# Altium integrated library Linear Technology Power Management Switching Regulator LT1074-LT8705.IntLib: 2252 symbols (part 58 of 148)
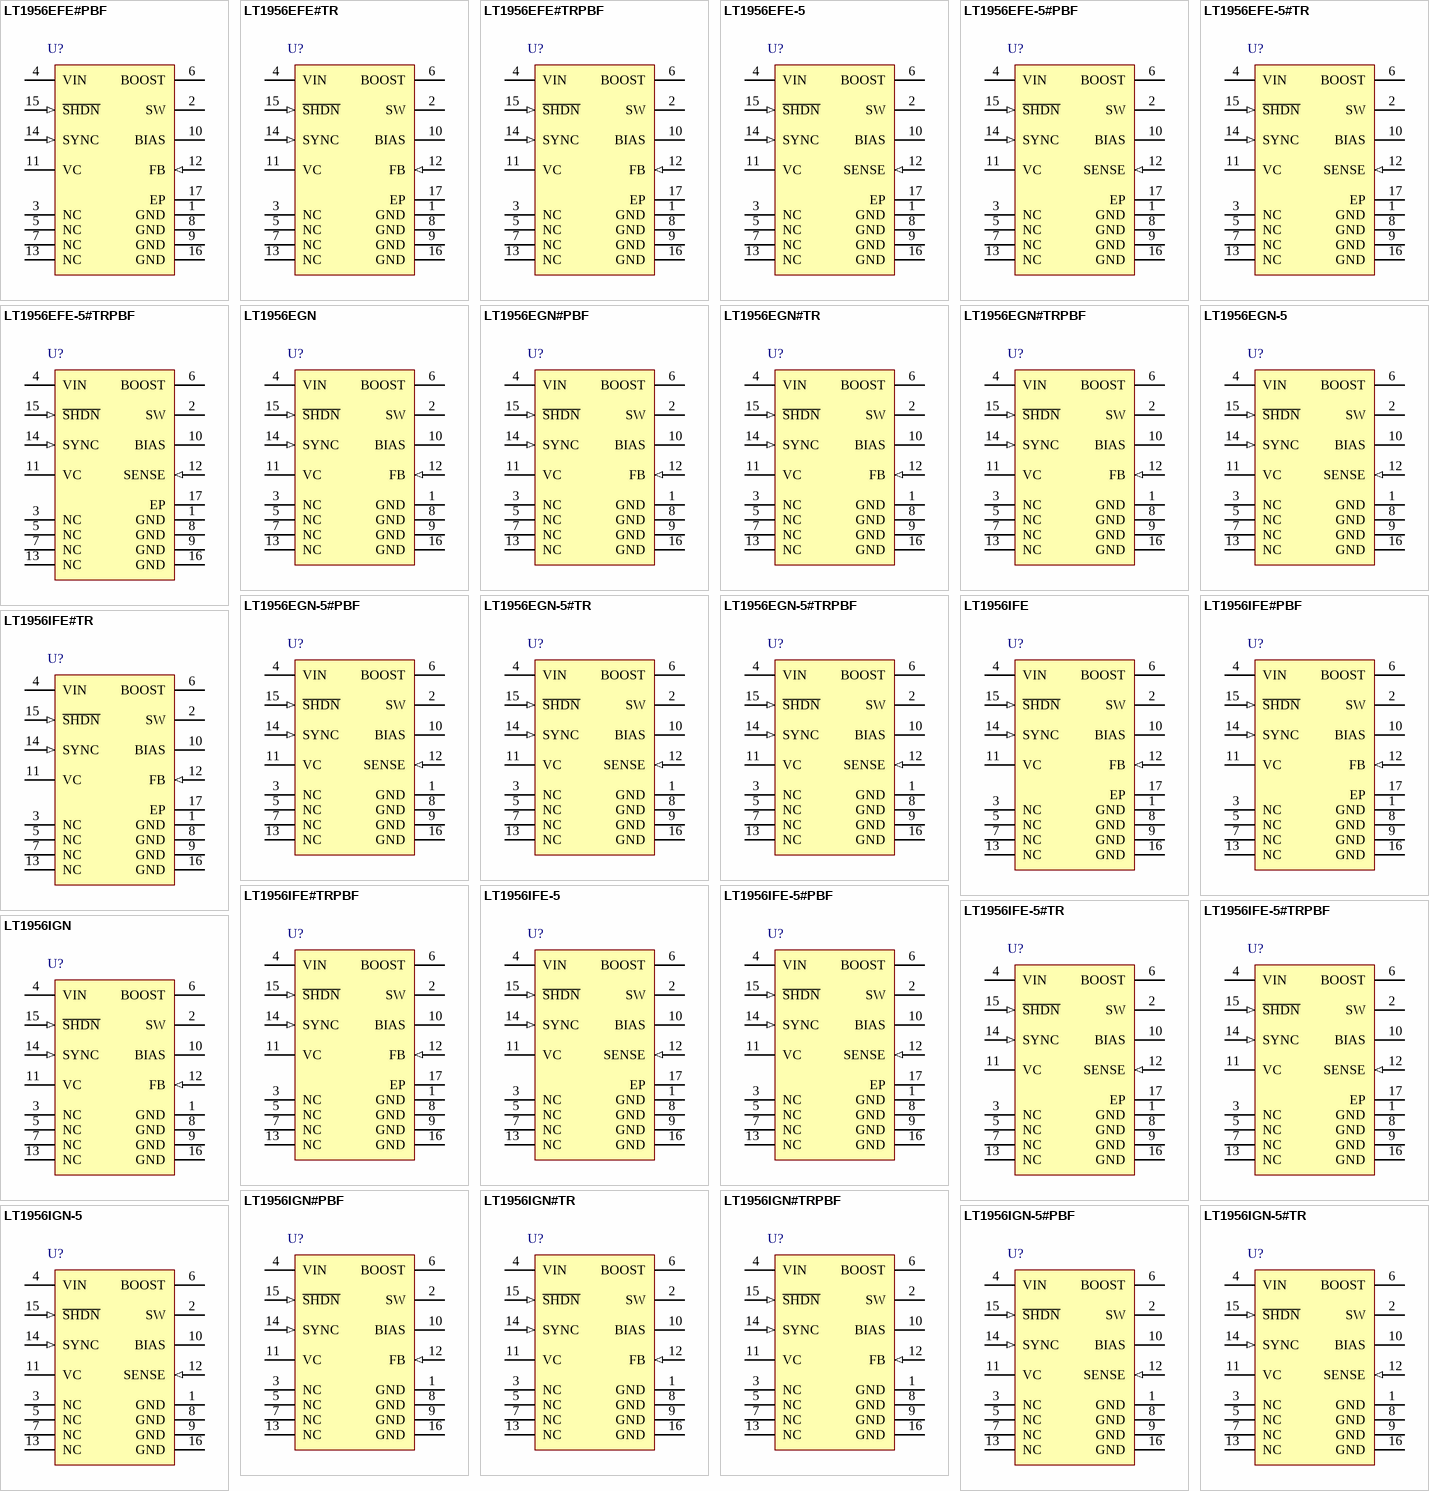
[diagram p128: symbols LT1956EFE#PBF to LT1956IGN-5#TR]

## LT1956EFE-5#TRPBF
designator U?
High Voltage, 1.5 A, 500 kHz Step-Down Switching Regulator, 16-pin SOP (FE-16-EPV-BB), -40 to 125 degC, Pb-Free, Tape and Reel; Manufacturer: Linear Technology; PartNumber: LT1956EFE-5#TRPBF; Frequency Sync Range: 580kHz - 700kHz; Number of Outputs: 1; PackageVersion: Rev. J, 11/2012; PackageReference: FE-16; PackageDescription: 16-Pin Plastic TSSOP, Body 5 x 4.4 mm, Pitch 0.65 mm; Supplier 1: Digi-Key; Supplier Part Number 1: LT1956EFE-5#TRPBF-ND; Packing: Tape and Reel; RoHS: TRUE; Mounting Technology: Surface Mount; ComponentLink1Description: Manufacturer URL; ComponentLink1URL: http://www.linear.com/; ComponentLink2Description: Datasheet; ComponentLink2URL: http://cds.linear.com/docs/en/datasheet/1956f.pdf; ComponentLink3Description: Package Specification; ComponentLink3URL: http://cds.linear.com/docs/en/packaging/05081663__J_FE16(BB).pdf
footprint LT-FE-16-EPV-BB_N (SOP, 16-Leads, Body 5.1x4.5mm, Pitch 0.65mm, Thermal Pad 3.58x2.94mm, IPC Medium Density)
footprint LT-FE-16-EPV-BB_L (SOP, 16-Leads, Body 5.1x4.5mm, Pitch 0.65mm, Thermal Pad 3.58x2.94mm, IPC High Density)
footprint LT-FE-16-EPV-BB_M (SOP, 16-Leads, Body 5.1x4.5mm, Pitch 0.65mm, Thermal Pad 3.58x2.94mm, IPC Low Density)
pins: 1 GND (power) "The GND pin connections act as the reference for the regulated output, so load regulation will suffer if the ground end of the load is not at the  same voltage as the GND pins of the IC. This condition will occur when load (See Datasheet)", 2 SW (power) "The switch pin is the emitter of the on-chip power NPN switch. This pin is driven up to the input pin voltage during switch on-time. Inductor current drives the switch pin negative during switch off-time. Negative voltage is (See Datasheet)", 3 NC "No Connection.", 4 VIN (power) "This is the collector of the on-chip power NPN switch. VIN powers the internal control circuitry when a voltage on the BIAS pin is not present. High dI/dt edges occur on this pin during switch turn on and off. Keep the path (See Datasheet)", 5 NC "No Connection.", 6 BOOST "The BOOST pin is used to provide a drive voltage, higher than the input voltage, to the internal bipolar NPN power switch. Without this added voltage, the typical switch voltage loss would be about 1.5V. The additional BOOST (See Datasheet)", 7 NC "No Connection.", 8 GND (power) "The GND pin connections act as the reference for the regulated output, so load regulation will suffer if the ground end of the load is not at the  same voltage as the GND pins of the IC. This condition will occur when load (See Datasheet)", 9 GND (power) "The GND pin connections act as the reference for the regulated output, so load regulation will suffer if the ground end of the load is not at the  same voltage as the GND pins of the IC. This condition will occur when load (See Datasheet)", 10 BIAS (power) "The BIAS pin is used to improve ef?ciency when operating at higher input voltages and light load current. Connecting this pin to the regulated output voltage forces most of the internal circuitry to draw its operating (See Datasheet)", 11 VC, 12 SENSE (in) "The feedback pin is used to set the output voltage using an external voltage divider that generates 1.22V at the pin for the desired output voltage. The 5V fixed output voltage parts have the divider included on the chip and (See Datasheet)", 13 NC "No Connection.", 14 SYNC (in) "The SYNC pin is used to synchronize the internal oscillator to an external signal. It is directly logic compatible and can be driven with any signal between 10% and 90% duty cycle. The synchronizing range is equal to initial (See Datasheet)", 15 ~{SHDN} (in) "The S\H\D\N\ pin is used to turn off the regulator and to reduce input drain current to a few microamperes. This pin has two thresholds: one at 2.38V to disable switching and a second at 0.4V to force complete  micropower (See Datasheet)", 16 GND (power) "The GND pin connections act as the reference for the regulated output, so load regulation will suffer if the ground end of the load is not at the  same voltage as the GND pins of the IC. This condition will occur when load (See Datasheet)", 17 EP (power) "The GND pin connections act as the reference for the regulated output, so load regulation will suffer if the ground end of the load is not at the  same voltage as the GND pins of the IC. This condition will occur when load (See Datasheet)"

## LT1956EGN
designator U?
High Voltage, 1.5 A, 500 kHz Step-Down Switching Regulator, 16-pin SOP (GN-16), -40 to 125 degC; Manufacturer: Linear Technology; PartNumber: LT1956EGN; Frequency Sync Range: 580kHz - 700kHz; Number of Outputs: 1; PackageVersion: Rev. B, 03/2012; PackageReference: GN-16; PackageDescription: 16-Pin Plastic SSOP, Body 4.9 x 3.9 mm, Pitch 0.635 mm; Supplier 1: Digi-Key; Supplier Part Number 1: LT1956EGN-ND; RoHS: FALSE; Mounting Technology: Surface Mount; ComponentLink1Description: Manufacturer URL; ComponentLink1URL: http://www.linear.com/; ComponentLink2Description: Datasheet; ComponentLink2URL: http://cds.linear.com/docs/en/datasheet/1956f.pdf; ComponentLink3Description: Package Specification; ComponentLink3URL: http://cds.linear.com/docs/en/packaging/05081641_B_GN16.pdf
footprint LT-GN-16_N (SOP, 16-Leads, Body 5x4mm, Pitch 0.635mm, IPC Medium Density)
footprint LT-GN-16_L (SOP, 16-Leads, Body 5x4mm, Pitch 0.635mm, IPC High Density)
footprint LT-GN-16_M (SOP, 16-Leads, Body 5x4mm, Pitch 0.635mm, IPC Low Density)
pins: 1 GND (power) "The GND pin connections act as the reference for the regulated output, so load regulation will suffer if the “ground” end of the load is not at the same voltage as the GND pins of the IC. This condition will occur w(See Datasheet)", 2 SW (power) "The switch pin is the emitter of the on-chip power NPN switch. This pin is driven up to the input pin voltage during switch on time. Inductor current drives the switch pin negative during switch off time. Negative voltage is (See Datasheet)", 3 NC "No Connection.", 4 VIN (power) "This is the collector of the on-chip power NPN switch. VIN powers the internal control circuitry when a voltage on the BIAS pin is not present. High dI/dt edges occur on this pin during switch turn on and off. Keep the path (See Datasheet)", 5 NC "No Connection.", 6 BOOST "The BOOST pin is used to provide a drive voltage, higher than the input voltage, to the internal bipolar NPN power switch. Without this added voltage, the typical switch voltage loss would be about 1.5V. The additional BOOST (See Datasheet)", 7 NC "No Connection.", 8 GND (power) "The GND pin connections act as the reference for the regulated output, so load regulation will suffer if the “ground” end of the load is not at the same voltage as the GND pins of the IC. This condition will occur w(See Datasheet)", 9 GND (power) "The GND pin connections act as the reference for the regulated output, so load regulation will suffer if the “ground” end of the load is not at the same voltage as the GND pins of the IC. This condition will occur w(See Datasheet)", 10 BIAS (power) "The BIAS pin is used to improve efficiency when operating at higher input voltages and light load current. Connecting this pin to the regulated output voltage forces most of the internal circuitry to draw its operating (See Datasheet)", 11 VC "The VC pin is the output of the error amplifier and the input of the peak switch current comparator. It is normally used for frequency compensation, but can also serve as a current clamp or control loop override. VC sits at (See Datasheet)", 12 FB (in) "The feedback pin is used to set the output voltage using an external voltage divider that generates 1.22V at the pin for the desired output voltage. The 5V fixed output voltage parts have the divider included on the chip and (See Datasheet)", 13 NC "No Connection.", 14 SYNC (in) "The SYNC pin is used to synchronize the internal oscillator to an external signal. It is directly logic compatible and can be driven with any signal between 10% and 90% duty cycle. The synchronizing range is equal to initial (See Datasheet)", 15 ~{SHDN} (in) "The S\H\D\N\ pin is used to turn off the regulator and to reduce input current to a few microamperes. This pin has two thresholds: one at 2.38V to disable switching and a second at 0.4V to force complete micropower shutdown. (See Datasheet)", 16 GND (power) "The GND pin connections act as the reference for the regulated output, so load regulation will suffer if the “ground” end of the load is not at the same voltage as the GND pins of the IC. This condition will occur w(See Datasheet)"

## LT1956EGN#PBF
designator U?
High Voltage, 1.5 A, 500 kHz Step-Down Switching Regulator, 16-pin SOP (GN-16), -40 to 125 degC, Pb-Free; Manufacturer: Linear Technology; PartNumber: LT1956EGN#PBF; Frequency Sync Range: 580kHz - 700kHz; Number of Outputs: 1; PackageVersion: Rev. B, 03/2012; PackageReference: GN-16; PackageDescription: 16-Pin Plastic SSOP, Body 4.9 x 3.9 mm, Pitch 0.635 mm; Supplier 1: Digi-Key; Supplier Part Number 1: LT1956EGN#PBF-ND; Supplier 2: Farnell; Supplier Part Number 2: 1273801; Supplier 3: Newark; Supplier Part Number 3: 57M7338; RoHS: TRUE; Mounting Technology: Surface Mount; ComponentLink1Description: Manufacturer URL; ComponentLink1URL: http://www.linear.com/; ComponentLink2Description: Datasheet; ComponentLink2URL: http://cds.linear.com/docs/en/datasheet/1956f.pdf; ComponentLink3Description: Package Specification; ComponentLink3URL: http://cds.linear.com/docs/en/packaging/05081641_B_GN16.pdf
footprint LT-GN-16_N (SOP, 16-Leads, Body 5x4mm, Pitch 0.635mm, IPC Medium Density)
footprint LT-GN-16_L (SOP, 16-Leads, Body 5x4mm, Pitch 0.635mm, IPC High Density)
footprint LT-GN-16_M (SOP, 16-Leads, Body 5x4mm, Pitch 0.635mm, IPC Low Density)
pins: 1 GND (power) "The GND pin connections act as the reference for the regulated output, so load regulation will suffer if the “ground” end of the load is not at the same voltage as the GND pins of the IC. This condition will occur w(See Datasheet)", 2 SW (power) "The switch pin is the emitter of the on-chip power NPN switch. This pin is driven up to the input pin voltage during switch on time. Inductor current drives the switch pin negative during switch off time. Negative voltage is (See Datasheet)", 3 NC "No Connection.", 4 VIN (power) "This is the collector of the on-chip power NPN switch. VIN powers the internal control circuitry when a voltage on the BIAS pin is not present. High dI/dt edges occur on this pin during switch turn on and off. Keep the path (See Datasheet)", 5 NC "No Connection.", 6 BOOST "The BOOST pin is used to provide a drive voltage, higher than the input voltage, to the internal bipolar NPN power switch. Without this added voltage, the typical switch voltage loss would be about 1.5V. The additional BOOST (See Datasheet)", 7 NC "No Connection.", 8 GND (power) "The GND pin connections act as the reference for the regulated output, so load regulation will suffer if the “ground” end of the load is not at the same voltage as the GND pins of the IC. This condition will occur w(See Datasheet)", 9 GND (power) "The GND pin connections act as the reference for the regulated output, so load regulation will suffer if the “ground” end of the load is not at the same voltage as the GND pins of the IC. This condition will occur w(See Datasheet)", 10 BIAS (power) "The BIAS pin is used to improve efficiency when operating at higher input voltages and light load current. Connecting this pin to the regulated output voltage forces most of the internal circuitry to draw its operating (See Datasheet)", 11 VC "The VC pin is the output of the error amplifier and the input of the peak switch current comparator. It is normally used for frequency compensation, but can also serve as a current clamp or control loop override. VC sits at (See Datasheet)", 12 FB (in) "The feedback pin is used to set the output voltage using an external voltage divider that generates 1.22V at the pin for the desired output voltage. The 5V fixed output voltage parts have the divider included on the chip and (See Datasheet)", 13 NC "No Connection.", 14 SYNC (in) "The SYNC pin is used to synchronize the internal oscillator to an external signal. It is directly logic compatible and can be driven with any signal between 10% and 90% duty cycle. The synchronizing range is equal to initial (See Datasheet)", 15 ~{SHDN} (in) "The S\H\D\N\ pin is used to turn off the regulator and to reduce input current to a few microamperes. This pin has two thresholds: one at 2.38V to disable switching and a second at 0.4V to force complete micropower shutdown. (See Datasheet)", 16 GND (power) "The GND pin connections act as the reference for the regulated output, so load regulation will suffer if the “ground” end of the load is not at the same voltage as the GND pins of the IC. This condition will occur w(See Datasheet)"

## LT1956EGN#TR
designator U?
High Voltage, 1.5 A, 500 kHz Step-Down Switching Regulator, 16-pin SOP (GN-16), -40 to 125 degC, Tape and Reel; Manufacturer: Linear Technology; PartNumber: LT1956EGN#TR; Frequency Sync Range: 580kHz - 700kHz; Number of Outputs: 1; PackageVersion: Rev. B, 03/2012; PackageReference: GN-16; PackageDescription: 16-Pin Plastic SSOP, Body 4.9 x 3.9 mm, Pitch 0.635 mm; Supplier 1: Digi-Key; Supplier Part Number 1: LT1956EGNTR-ND; Packing: Tape and Reel; RoHS: FALSE; Mounting Technology: Surface Mount; ComponentLink1Description: Manufacturer URL; ComponentLink1URL: http://www.linear.com/; ComponentLink2Description: Datasheet; ComponentLink2URL: http://cds.linear.com/docs/en/datasheet/1956f.pdf; ComponentLink3Description: Package Specification; ComponentLink3URL: http://cds.linear.com/docs/en/packaging/05081641_B_GN16.pdf
footprint LT-GN-16_N (SOP, 16-Leads, Body 5x4mm, Pitch 0.635mm, IPC Medium Density)
footprint LT-GN-16_L (SOP, 16-Leads, Body 5x4mm, Pitch 0.635mm, IPC High Density)
footprint LT-GN-16_M (SOP, 16-Leads, Body 5x4mm, Pitch 0.635mm, IPC Low Density)
pins: 1 GND (power) "The GND pin connections act as the reference for the regulated output, so load regulation will suffer if the “ground” end of the load is not at the same voltage as the GND pins of the IC. This condition will occur w(See Datasheet)", 2 SW (power) "The switch pin is the emitter of the on-chip power NPN switch. This pin is driven up to the input pin voltage during switch on time. Inductor current drives the switch pin negative during switch off time. Negative voltage is (See Datasheet)", 3 NC "No Connection.", 4 VIN (power) "This is the collector of the on-chip power NPN switch. VIN powers the internal control circuitry when a voltage on the BIAS pin is not present. High dI/dt edges occur on this pin during switch turn on and off. Keep the path (See Datasheet)", 5 NC "No Connection.", 6 BOOST "The BOOST pin is used to provide a drive voltage, higher than the input voltage, to the internal bipolar NPN power switch. Without this added voltage, the typical switch voltage loss would be about 1.5V. The additional BOOST (See Datasheet)", 7 NC "No Connection.", 8 GND (power) "The GND pin connections act as the reference for the regulated output, so load regulation will suffer if the “ground” end of the load is not at the same voltage as the GND pins of the IC. This condition will occur w(See Datasheet)", 9 GND (power) "The GND pin connections act as the reference for the regulated output, so load regulation will suffer if the “ground” end of the load is not at the same voltage as the GND pins of the IC. This condition will occur w(See Datasheet)", 10 BIAS (power) "The BIAS pin is used to improve efficiency when operating at higher input voltages and light load current. Connecting this pin to the regulated output voltage forces most of the internal circuitry to draw its operating (See Datasheet)", 11 VC "The VC pin is the output of the error amplifier and the input of the peak switch current comparator. It is normally used for frequency compensation, but can also serve as a current clamp or control loop override. VC sits at (See Datasheet)", 12 FB (in) "The feedback pin is used to set the output voltage using an external voltage divider that generates 1.22V at the pin for the desired output voltage. The 5V fixed output voltage parts have the divider included on the chip and (See Datasheet)", 13 NC "No Connection.", 14 SYNC (in) "The SYNC pin is used to synchronize the internal oscillator to an external signal. It is directly logic compatible and can be driven with any signal between 10% and 90% duty cycle. The synchronizing range is equal to initial (See Datasheet)", 15 ~{SHDN} (in) "The S\H\D\N\ pin is used to turn off the regulator and to reduce input current to a few microamperes. This pin has two thresholds: one at 2.38V to disable switching and a second at 0.4V to force complete micropower shutdown. (See Datasheet)", 16 GND (power) "The GND pin connections act as the reference for the regulated output, so load regulation will suffer if the “ground” end of the load is not at the same voltage as the GND pins of the IC. This condition will occur w(See Datasheet)"

## LT1956EGN#TRPBF
designator U?
High Voltage, 1.5 A, 500 kHz Step-Down Switching Regulator, 16-pin SOP (GN-16), -40 to 125 degC, Pb-Free, Tape and Reel; Manufacturer: Linear Technology; PartNumber: LT1956EGN#TRPBF; Frequency Sync Range: 580kHz - 700kHz; Number of Outputs: 1; PackageVersion: Rev. B, 03/2012; PackageReference: GN-16; PackageDescription: 16-Pin Plastic SSOP, Body 4.9 x 3.9 mm, Pitch 0.635 mm; Supplier 1: Digi-Key; Supplier Part Number 1: LT1956EGN#TRPBF-ND; Supplier 2: Newark; Supplier Part Number 2: 57M7340; Packing: Tape and Reel; RoHS: TRUE; Mounting Technology: Surface Mount; ComponentLink1Description: Manufacturer URL; ComponentLink1URL: http://www.linear.com/; ComponentLink2Description: Datasheet; ComponentLink2URL: http://cds.linear.com/docs/en/datasheet/1956f.pdf; ComponentLink3Description: Package Specification; ComponentLink3URL: http://cds.linear.com/docs/en/packaging/05081641_B_GN16.pdf
footprint LT-GN-16_N (SOP, 16-Leads, Body 5x4mm, Pitch 0.635mm, IPC Medium Density)
footprint LT-GN-16_L (SOP, 16-Leads, Body 5x4mm, Pitch 0.635mm, IPC High Density)
footprint LT-GN-16_M (SOP, 16-Leads, Body 5x4mm, Pitch 0.635mm, IPC Low Density)
pins: 1 GND (power) "The GND pin connections act as the reference for the regulated output, so load regulation will suffer if the “ground” end of the load is not at the same voltage as the GND pins of the IC. This condition will occur w(See Datasheet)", 2 SW (power) "The switch pin is the emitter of the on-chip power NPN switch. This pin is driven up to the input pin voltage during switch on time. Inductor current drives the switch pin negative during switch off time. Negative voltage is (See Datasheet)", 3 NC "No Connection.", 4 VIN (power) "This is the collector of the on-chip power NPN switch. VIN powers the internal control circuitry when a voltage on the BIAS pin is not present. High dI/dt edges occur on this pin during switch turn on and off. Keep the path (See Datasheet)", 5 NC "No Connection.", 6 BOOST "The BOOST pin is used to provide a drive voltage, higher than the input voltage, to the internal bipolar NPN power switch. Without this added voltage, the typical switch voltage loss would be about 1.5V. The additional BOOST (See Datasheet)", 7 NC "No Connection.", 8 GND (power) "The GND pin connections act as the reference for the regulated output, so load regulation will suffer if the “ground” end of the load is not at the same voltage as the GND pins of the IC. This condition will occur w(See Datasheet)", 9 GND (power) "The GND pin connections act as the reference for the regulated output, so load regulation will suffer if the “ground” end of the load is not at the same voltage as the GND pins of the IC. This condition will occur w(See Datasheet)", 10 BIAS (power) "The BIAS pin is used to improve efficiency when operating at higher input voltages and light load current. Connecting this pin to the regulated output voltage forces most of the internal circuitry to draw its operating (See Datasheet)", 11 VC "The VC pin is the output of the error amplifier and the input of the peak switch current comparator. It is normally used for frequency compensation, but can also serve as a current clamp or control loop override. VC sits at (See Datasheet)", 12 FB (in) "The feedback pin is used to set the output voltage using an external voltage divider that generates 1.22V at the pin for the desired output voltage. The 5V fixed output voltage parts have the divider included on the chip and (See Datasheet)", 13 NC "No Connection.", 14 SYNC (in) "The SYNC pin is used to synchronize the internal oscillator to an external signal. It is directly logic compatible and can be driven with any signal between 10% and 90% duty cycle. The synchronizing range is equal to initial (See Datasheet)", 15 ~{SHDN} (in) "The S\H\D\N\ pin is used to turn off the regulator and to reduce input current to a few microamperes. This pin has two thresholds: one at 2.38V to disable switching and a second at 0.4V to force complete micropower shutdown. (See Datasheet)", 16 GND (power) "The GND pin connections act as the reference for the regulated output, so load regulation will suffer if the “ground” end of the load is not at the same voltage as the GND pins of the IC. This condition will occur w(See Datasheet)"

## LT1956EGN-5
designator U?
High Voltage, 1.5 A, 500 kHz Step-Down Switching Regulator, 16-pin SOP (GN-16), -40 to 125 degC; Manufacturer: Linear Technology; PartNumber: LT1956EGN-5; Frequency Sync Range: 580kHz - 700kHz; Number of Outputs: 1; PackageVersion: Rev. B, 03/2012; PackageReference: GN-16; PackageDescription: 16-Pin Plastic SSOP, Body 4.9 x 3.9 mm, Pitch 0.635 mm; Supplier 1: Digi-Key; Supplier Part Number 1: LT1956EGN-5-ND; RoHS: FALSE; Mounting Technology: Surface Mount; ComponentLink1Description: Manufacturer URL; ComponentLink1URL: http://www.linear.com/; ComponentLink2Description: Datasheet; ComponentLink2URL: http://cds.linear.com/docs/en/datasheet/1956f.pdf; ComponentLink3Description: Package Specification; ComponentLink3URL: http://cds.linear.com/docs/en/packaging/05081641_B_GN16.pdf
footprint LT-GN-16_N (SOP, 16-Leads, Body 5x4mm, Pitch 0.635mm, IPC Medium Density)
footprint LT-GN-16_L (SOP, 16-Leads, Body 5x4mm, Pitch 0.635mm, IPC High Density)
footprint LT-GN-16_M (SOP, 16-Leads, Body 5x4mm, Pitch 0.635mm, IPC Low Density)
pins: 1 GND (power) "The GND pin connections act as the reference for the regulated output, so load regulation will suffer if the “ground?end of the load is not at the same voltage as the GND pins of the IC. This condition will occur w(See Datasheet)", 2 SW (power) "The switch pin is the emitter of the on-chip power NPN switch. This pin is driven up to the input pin voltage during switch on time. Inductor current drives the switch pin negative during switch off time. Negative voltage is (See Datasheet)", 3 NC "No Connection.", 4 VIN (power) "This is the collector of the on-chip power NPN switch. VIN powers the internal control circuitry when a voltage on the BIAS pin is not present. High dI/dt edges occur on this pin during switch turn on and off. Keep the path (See Datasheet)", 5 NC "No Connection.", 6 BOOST "The BOOST pin is used to provide a drive voltage, higher than the input voltage, to the internal bipolar NPN power switch. Without this added voltage, the typical switch voltage loss would be about 1.5V. The additional BOOST (See Datasheet)", 7 NC "No Connection.", 8 GND (power) "The GND pin connections act as the reference for the regulated output, so load regulation will suffer if the “ground?end of the load is not at the same voltage as the GND pins of the IC. This condition will occur w(See Datasheet)", 9 GND (power) "The GND pin connections act as the reference for the regulated output, so load regulation will suffer if the “ground?end of the load is not at the same voltage as the GND pins of the IC. This condition will occur w(See Datasheet)", 10 BIAS (power) "The BIAS pin is used to improve efficiency when operating at higher input voltages and light load current. Connecting this pin to the regulated output voltage forces most of the internal circuitry to draw its operating (See Datasheet)", 11 VC "The VC pin is the output of the error amplifier and the input of the peak switch current comparator. It is normally used for frequency compensation, but can also serve as a current clamp or control loop override. VC sits at (See Datasheet)", 12 SENSE (in) "The feedback pin is used to set the output voltage using an external voltage divider that generates 1.22V at the pin for the desired output voltage. The 5V fixed output voltage parts have the divider included on the chip and (See Datasheet)", 13 NC "No Connection.", 14 SYNC (in) "The SYNC pin is used to synchronize the internal oscillator to an external signal. It is directly logic compatible and can be driven with any signal between 10% and 90% duty cycle. The synchronizing range is equal to initial (See Datasheet)", 15 ~{SHDN} (in) "The S\H\D\N\ pin is used to turn off the regulator and to reduce input current to a few microamperes. This pin has two thresholds: one at 2.38V to disable switching and a second at 0.4V to force complete micropower shutdown. (See Datasheet)", 16 GND (power) "The GND pin connections act as the reference for the regulated output, so load regulation will suffer if the “ground?end of the load is not at the same voltage as the GND pins of the IC. This condition will occur w(See Datasheet)"

## LT1956EGN-5#PBF
designator U?
High Voltage, 1.5 A, 500 kHz Step-Down Switching Regulator, 16-pin SOP (GN-16), -40 to 125 degC, Pb-Free; Manufacturer: Linear Technology; PartNumber: LT1956EGN-5#PBF; Frequency Sync Range: 580kHz - 700kHz; Number of Outputs: 1; PackageVersion: Rev. B, 03/2012; PackageReference: GN-16; PackageDescription: 16-Pin Plastic SSOP, Body 4.9 x 3.9 mm, Pitch 0.635 mm; Supplier 1: Digi-Key; Supplier Part Number 1: LT1956EGN-5#PBF-ND; Supplier 2: Farnell; Supplier Part Number 2: 1273803; Supplier 3: Newark; Supplier Part Number 3: 57M7335; RoHS: TRUE; Mounting Technology: Surface Mount; ComponentLink1Description: Manufacturer URL; ComponentLink1URL: http://www.linear.com/; ComponentLink2Description: Datasheet; ComponentLink2URL: http://cds.linear.com/docs/en/datasheet/1956f.pdf; ComponentLink3Description: Package Specification; ComponentLink3URL: http://cds.linear.com/docs/en/packaging/05081641_B_GN16.pdf
footprint LT-GN-16_N (SOP, 16-Leads, Body 5x4mm, Pitch 0.635mm, IPC Medium Density)
footprint LT-GN-16_L (SOP, 16-Leads, Body 5x4mm, Pitch 0.635mm, IPC High Density)
footprint LT-GN-16_M (SOP, 16-Leads, Body 5x4mm, Pitch 0.635mm, IPC Low Density)
pins: 1 GND (power) "The GND pin connections act as the reference for the regulated output, so load regulation will suffer if the “ground?end of the load is not at the same voltage as the GND pins of the IC. This condition will occur w(See Datasheet)", 2 SW (power) "The switch pin is the emitter of the on-chip power NPN switch. This pin is driven up to the input pin voltage during switch on time. Inductor current drives the switch pin negative during switch off time. Negative voltage is (See Datasheet)", 3 NC "No Connection.", 4 VIN (power) "This is the collector of the on-chip power NPN switch. VIN powers the internal control circuitry when a voltage on the BIAS pin is not present. High dI/dt edges occur on this pin during switch turn on and off. Keep the path (See Datasheet)", 5 NC "No Connection.", 6 BOOST "The BOOST pin is used to provide a drive voltage, higher than the input voltage, to the internal bipolar NPN power switch. Without this added voltage, the typical switch voltage loss would be about 1.5V. The additional BOOST (See Datasheet)", 7 NC "No Connection.", 8 GND (power) "The GND pin connections act as the reference for the regulated output, so load regulation will suffer if the “ground?end of the load is not at the same voltage as the GND pins of the IC. This condition will occur w(See Datasheet)", 9 GND (power) "The GND pin connections act as the reference for the regulated output, so load regulation will suffer if the “ground?end of the load is not at the same voltage as the GND pins of the IC. This condition will occur w(See Datasheet)", 10 BIAS (power) "The BIAS pin is used to improve efficiency when operating at higher input voltages and light load current. Connecting this pin to the regulated output voltage forces most of the internal circuitry to draw its operating (See Datasheet)", 11 VC "The VC pin is the output of the error amplifier and the input of the peak switch current comparator. It is normally used for frequency compensation, but can also serve as a current clamp or control loop override. VC sits at (See Datasheet)", 12 SENSE (in) "The feedback pin is used to set the output voltage using an external voltage divider that generates 1.22V at the pin for the desired output voltage. The 5V fixed output voltage parts have the divider included on the chip and (See Datasheet)", 13 NC "No Connection.", 14 SYNC (in) "The SYNC pin is used to synchronize the internal oscillator to an external signal. It is directly logic compatible and can be driven with any signal between 10% and 90% duty cycle. The synchronizing range is equal to initial (See Datasheet)", 15 ~{SHDN} (in) "The S\H\D\N\ pin is used to turn off the regulator and to reduce input current to a few microamperes. This pin has two thresholds: one at 2.38V to disable switching and a second at 0.4V to force complete micropower shutdown. (See Datasheet)", 16 GND (power) "The GND pin connections act as the reference for the regulated output, so load regulation will suffer if the “ground?end of the load is not at the same voltage as the GND pins of the IC. This condition will occur w(See Datasheet)"

## LT1956EGN-5#TR
designator U?
High Voltage, 1.5 A, 500 kHz Step-Down Switching Regulator, 16-pin SOP (GN-16), -40 to 125 degC, Tape and Reel; Manufacturer: Linear Technology; PartNumber: LT1956EGN-5#TR; Frequency Sync Range: 580kHz - 700kHz; Number of Outputs: 1; PackageVersion: Rev. B, 03/2012; PackageReference: GN-16; PackageDescription: 16-Pin Plastic SSOP, Body 4.9 x 3.9 mm, Pitch 0.635 mm; Supplier 1: Digi-Key; Supplier Part Number 1: LT1956EGN-5TR-ND; Packing: Tape and Reel; RoHS: FALSE; Mounting Technology: Surface Mount; ComponentLink1Description: Manufacturer URL; ComponentLink1URL: http://www.linear.com/; ComponentLink2Description: Datasheet; ComponentLink2URL: http://cds.linear.com/docs/en/datasheet/1956f.pdf; ComponentLink3Description: Package Specification; ComponentLink3URL: http://cds.linear.com/docs/en/packaging/05081641_B_GN16.pdf
footprint LT-GN-16_N (SOP, 16-Leads, Body 5x4mm, Pitch 0.635mm, IPC Medium Density)
footprint LT-GN-16_L (SOP, 16-Leads, Body 5x4mm, Pitch 0.635mm, IPC High Density)
footprint LT-GN-16_M (SOP, 16-Leads, Body 5x4mm, Pitch 0.635mm, IPC Low Density)
pins: 1 GND (power) "The GND pin connections act as the reference for the regulated output, so load regulation will suffer if the “ground?end of the load is not at the same voltage as the GND pins of the IC. This condition will occur w(See Datasheet)", 2 SW (power) "The switch pin is the emitter of the on-chip power NPN switch. This pin is driven up to the input pin voltage during switch on time. Inductor current drives the switch pin negative during switch off time. Negative voltage is (See Datasheet)", 3 NC "No Connection.", 4 VIN (power) "This is the collector of the on-chip power NPN switch. VIN powers the internal control circuitry when a voltage on the BIAS pin is not present. High dI/dt edges occur on this pin during switch turn on and off. Keep the path (See Datasheet)", 5 NC "No Connection.", 6 BOOST "The BOOST pin is used to provide a drive voltage, higher than the input voltage, to the internal bipolar NPN power switch. Without this added voltage, the typical switch voltage loss would be about 1.5V. The additional BOOST (See Datasheet)", 7 NC "No Connection.", 8 GND (power) "The GND pin connections act as the reference for the regulated output, so load regulation will suffer if the “ground?end of the load is not at the same voltage as the GND pins of the IC. This condition will occur w(See Datasheet)", 9 GND (power) "The GND pin connections act as the reference for the regulated output, so load regulation will suffer if the “ground?end of the load is not at the same voltage as the GND pins of the IC. This condition will occur w(See Datasheet)", 10 BIAS (power) "The BIAS pin is used to improve efficiency when operating at higher input voltages and light load current. Connecting this pin to the regulated output voltage forces most of the internal circuitry to draw its operating (See Datasheet)", 11 VC "The VC pin is the output of the error amplifier and the input of the peak switch current comparator. It is normally used for frequency compensation, but can also serve as a current clamp or control loop override. VC sits at (See Datasheet)", 12 SENSE (in) "The feedback pin is used to set the output voltage using an external voltage divider that generates 1.22V at the pin for the desired output voltage. The 5V fixed output voltage parts have the divider included on the chip and (See Datasheet)", 13 NC "No Connection.", 14 SYNC (in) "The SYNC pin is used to synchronize the internal oscillator to an external signal. It is directly logic compatible and can be driven with any signal between 10% and 90% duty cycle. The synchronizing range is equal to initial (See Datasheet)", 15 ~{SHDN} (in) "The S\H\D\N\ pin is used to turn off the regulator and to reduce input current to a few microamperes. This pin has two thresholds: one at 2.38V to disable switching and a second at 0.4V to force complete micropower shutdown. (See Datasheet)", 16 GND (power) "The GND pin connections act as the reference for the regulated output, so load regulation will suffer if the “ground?end of the load is not at the same voltage as the GND pins of the IC. This condition will occur w(See Datasheet)"

## LT1956EGN-5#TRPBF
designator U?
High Voltage, 1.5 A, 500 kHz Step-Down Switching Regulator, 16-pin SOP (GN-16), -40 to 125 degC, Pb-Free, Tape and Reel; Manufacturer: Linear Technology; PartNumber: LT1956EGN-5#TRPBF; Frequency Sync Range: 580kHz - 700kHz; Number of Outputs: 1; PackageVersion: Rev. B, 03/2012; PackageReference: GN-16; PackageDescription: 16-Pin Plastic SSOP, Body 4.9 x 3.9 mm, Pitch 0.635 mm; Supplier 1: Digi-Key; Supplier Part Number 1: LT1956EGN-5#TRPBF-ND; Packing: Tape and Reel; RoHS: TRUE; Mounting Technology: Surface Mount; ComponentLink1Description: Manufacturer URL; ComponentLink1URL: http://www.linear.com/; ComponentLink2Description: Datasheet; ComponentLink2URL: http://cds.linear.com/docs/en/datasheet/1956f.pdf; ComponentLink3Description: Package Specification; ComponentLink3URL: http://cds.linear.com/docs/en/packaging/05081641_B_GN16.pdf
footprint LT-GN-16_N (SOP, 16-Leads, Body 5x4mm, Pitch 0.635mm, IPC Medium Density)
footprint LT-GN-16_L (SOP, 16-Leads, Body 5x4mm, Pitch 0.635mm, IPC High Density)
footprint LT-GN-16_M (SOP, 16-Leads, Body 5x4mm, Pitch 0.635mm, IPC Low Density)
pins: 1 GND (power) "The GND pin connections act as the reference for the regulated output, so load regulation will suffer if the “ground?end of the load is not at the same voltage as the GND pins of the IC. This condition will occur w(See Datasheet)", 2 SW (power) "The switch pin is the emitter of the on-chip power NPN switch. This pin is driven up to the input pin voltage during switch on time. Inductor current drives the switch pin negative during switch off time. Negative voltage is (See Datasheet)", 3 NC "No Connection.", 4 VIN (power) "This is the collector of the on-chip power NPN switch. VIN powers the internal control circuitry when a voltage on the BIAS pin is not present. High dI/dt edges occur on this pin during switch turn on and off. Keep the path (See Datasheet)", 5 NC "No Connection.", 6 BOOST "The BOOST pin is used to provide a drive voltage, higher than the input voltage, to the internal bipolar NPN power switch. Without this added voltage, the typical switch voltage loss would be about 1.5V. The additional BOOST (See Datasheet)", 7 NC "No Connection.", 8 GND (power) "The GND pin connections act as the reference for the regulated output, so load regulation will suffer if the “ground?end of the load is not at the same voltage as the GND pins of the IC. This condition will occur w(See Datasheet)", 9 GND (power) "The GND pin connections act as the reference for the regulated output, so load regulation will suffer if the “ground?end of the load is not at the same voltage as the GND pins of the IC. This condition will occur w(See Datasheet)", 10 BIAS (power) "The BIAS pin is used to improve efficiency when operating at higher input voltages and light load current. Connecting this pin to the regulated output voltage forces most of the internal circuitry to draw its operating (See Datasheet)", 11 VC "The VC pin is the output of the error amplifier and the input of the peak switch current comparator. It is normally used for frequency compensation, but can also serve as a current clamp or control loop override. VC sits at (See Datasheet)", 12 SENSE (in) "The feedback pin is used to set the output voltage using an external voltage divider that generates 1.22V at the pin for the desired output voltage. The 5V fixed output voltage parts have the divider included on the chip and (See Datasheet)", 13 NC "No Connection.", 14 SYNC (in) "The SYNC pin is used to synchronize the internal oscillator to an external signal. It is directly logic compatible and can be driven with any signal between 10% and 90% duty cycle. The synchronizing range is equal to initial (See Datasheet)", 15 ~{SHDN} (in) "The S\H\D\N\ pin is used to turn off the regulator and to reduce input current to a few microamperes. This pin has two thresholds: one at 2.38V to disable switching and a second at 0.4V to force complete micropower shutdown. (See Datasheet)", 16 GND (power) "The GND pin connections act as the reference for the regulated output, so load regulation will suffer if the “ground?end of the load is not at the same voltage as the GND pins of the IC. This condition will occur w(See Datasheet)"

## LT1956IFE
designator U?
High Voltage, 1.5 A, 500 kHz Step-Down Switching Regulator, 16-pin SOP (FE-16-EPV-BB), -40 to 125 degC; Manufacturer: Linear Technology; PartNumber: LT1956IFE; Frequency Sync Range: 580kHz - 700kHz; Number of Outputs: 1; PackageVersion: Rev. J, 11/2012; PackageReference: FE-16; PackageDescription: 16-Pin Plastic TSSOP, Body 5 x 4.4 mm, Pitch 0.65 mm; Supplier 1: Digi-Key; Supplier Part Number 1: LT1956IFE-ND; Supplier 2: Newark; Supplier Part Number 2: 57M7341; RoHS: FALSE; Mounting Technology: Surface Mount; ComponentLink1Description: Manufacturer URL; ComponentLink1URL: http://www.linear.com/; ComponentLink2Description: Datasheet; ComponentLink2URL: http://cds.linear.com/docs/en/datasheet/1956f.pdf; ComponentLink3Description: Package Specification; ComponentLink3URL: http://cds.linear.com/docs/en/packaging/05081663__J_FE16(BB).pdf
footprint LT-FE-16-EPV-BB_N (SOP, 16-Leads, Body 5.1x4.5mm, Pitch 0.65mm, Thermal Pad 3.58x2.94mm, IPC Medium Density)
footprint LT-FE-16-EPV-BB_L (SOP, 16-Leads, Body 5.1x4.5mm, Pitch 0.65mm, Thermal Pad 3.58x2.94mm, IPC High Density)
footprint LT-FE-16-EPV-BB_M (SOP, 16-Leads, Body 5.1x4.5mm, Pitch 0.65mm, Thermal Pad 3.58x2.94mm, IPC Low Density)
pins: 1 GND (power) "The GND pin connections act as the reference for the regulated output, so load regulation will suffer if the ground end of the load is not at the  same voltage as the GND pins of the IC. This condition will occur when load (See Datasheet)", 2 SW (power) "The switch pin is the emitter of the on-chip power NPN switch. This pin is driven up to the input pin voltage during switch on-time. Inductor current drives the switch pin negative during switch off-time. Negative voltage is (See Datasheet)", 3 NC "No Connection.", 4 VIN (power) "This is the collector of the on-chip power NPN switch. VIN powers the internal control circuitry when a voltage on the BIAS pin is not present. High dI/dt edges occur on this pin during switch turn on and off. Keep the path (See Datasheet)", 5 NC "No Connection.", 6 BOOST "The BOOST pin is used to provide a drive voltage, higher than the input voltage, to the internal bipolar NPN power switch. Without this added voltage, the typical switch voltage loss would be about 1.5V. The additional BOOST (See Datasheet)", 7 NC "No Connection.", 8 GND (power) "The GND pin connections act as the reference for the regulated output, so load regulation will suffer if the ground end of the load is not at the  same voltage as the GND pins of the IC. This condition will occur when load (See Datasheet)", 9 GND (power) "The GND pin connections act as the reference for the regulated output, so load regulation will suffer if the ground end of the load is not at the  same voltage as the GND pins of the IC. This condition will occur when load (See Datasheet)", 10 BIAS (power) "The BIAS pin is used to improve ef?ciency when operating at higher input voltages and light load current. Connecting this pin to the regulated output voltage forces most of the internal circuitry to draw its operating (See Datasheet)", 11 VC, 12 FB (in) "The feedback pin is used to set the output voltage using an external voltage divider that generates 1.22V at the pin for the desired output voltage. The 5V fixed output voltage parts have the divider included on the chip and (See Datasheet)", 13 NC "No Connection.", 14 SYNC (in) "The SYNC pin is used to synchronize the internal oscillator to an external signal. It is directly logic compatible and can be driven with any signal between 10% and 90% duty cycle. The synchronizing range is equal to initial (See Datasheet)", 15 ~{SHDN} (in) "The S\H\D\N\ pin is used to turn off the regulator and to reduce input drain current to a few microamperes. This pin has two thresholds: one at 2.38V to disable switching and a second at 0.4V to force complete  micropower (See Datasheet)", 16 GND (power) "The GND pin connections act as the reference for the regulated output, so load regulation will suffer if the ground end of the load is not at the  same voltage as the GND pins of the IC. This condition will occur when load (See Datasheet)", 17 EP (power) "The GND pin connections act as the reference for the regulated output, so load regulation will suffer if the ground end of the load is not at the  same voltage as the GND pins of the IC. This condition will occur when load (See Datasheet)"

## LT1956IFE#PBF
designator U?
High Voltage, 1.5 A, 500 kHz Step-Down Switching Regulator, 16-pin SOP (FE-16-EPV-BB), -40 to 125 degC, Pb-Free; Manufacturer: Linear Technology; PartNumber: LT1956IFE#PBF; Frequency Sync Range: 580kHz - 700kHz; Number of Outputs: 1; PackageVersion: Rev. J, 11/2012; PackageReference: FE-16; PackageDescription: 16-Pin Plastic TSSOP, Body 5 x 4.4 mm, Pitch 0.65 mm; Supplier 1: Digi-Key; Supplier Part Number 1: LT1956IFE#PBF-ND; Supplier 2: Newark; Supplier Part Number 2: 57M7346; RoHS: TRUE; Mounting Technology: Surface Mount; ComponentLink1Description: Manufacturer URL; ComponentLink1URL: http://www.linear.com/; ComponentLink2Description: Datasheet; ComponentLink2URL: http://cds.linear.com/docs/en/datasheet/1956f.pdf; ComponentLink3Description: Package Specification; ComponentLink3URL: http://cds.linear.com/docs/en/packaging/05081663__J_FE16(BB).pdf
footprint LT-FE-16-EPV-BB_N (SOP, 16-Leads, Body 5.1x4.5mm, Pitch 0.65mm, Thermal Pad 3.58x2.94mm, IPC Medium Density)
footprint LT-FE-16-EPV-BB_L (SOP, 16-Leads, Body 5.1x4.5mm, Pitch 0.65mm, Thermal Pad 3.58x2.94mm, IPC High Density)
footprint LT-FE-16-EPV-BB_M (SOP, 16-Leads, Body 5.1x4.5mm, Pitch 0.65mm, Thermal Pad 3.58x2.94mm, IPC Low Density)
pins: 1 GND (power) "The GND pin connections act as the reference for the regulated output, so load regulation will suffer if the ground end of the load is not at the  same voltage as the GND pins of the IC. This condition will occur when load (See Datasheet)", 2 SW (power) "The switch pin is the emitter of the on-chip power NPN switch. This pin is driven up to the input pin voltage during switch on-time. Inductor current drives the switch pin negative during switch off-time. Negative voltage is (See Datasheet)", 3 NC "No Connection.", 4 VIN (power) "This is the collector of the on-chip power NPN switch. VIN powers the internal control circuitry when a voltage on the BIAS pin is not present. High dI/dt edges occur on this pin during switch turn on and off. Keep the path (See Datasheet)", 5 NC "No Connection.", 6 BOOST "The BOOST pin is used to provide a drive voltage, higher than the input voltage, to the internal bipolar NPN power switch. Without this added voltage, the typical switch voltage loss would be about 1.5V. The additional BOOST (See Datasheet)", 7 NC "No Connection.", 8 GND (power) "The GND pin connections act as the reference for the regulated output, so load regulation will suffer if the ground end of the load is not at the  same voltage as the GND pins of the IC. This condition will occur when load (See Datasheet)", 9 GND (power) "The GND pin connections act as the reference for the regulated output, so load regulation will suffer if the ground end of the load is not at the  same voltage as the GND pins of the IC. This condition will occur when load (See Datasheet)", 10 BIAS (power) "The BIAS pin is used to improve ef?ciency when operating at higher input voltages and light load current. Connecting this pin to the regulated output voltage forces most of the internal circuitry to draw its operating (See Datasheet)", 11 VC, 12 FB (in) "The feedback pin is used to set the output voltage using an external voltage divider that generates 1.22V at the pin for the desired output voltage. The 5V fixed output voltage parts have the divider included on the chip and (See Datasheet)", 13 NC "No Connection.", 14 SYNC (in) "The SYNC pin is used to synchronize the internal oscillator to an external signal. It is directly logic compatible and can be driven with any signal between 10% and 90% duty cycle. The synchronizing range is equal to initial (See Datasheet)", 15 ~{SHDN} (in) "The S\H\D\N\ pin is used to turn off the regulator and to reduce input drain current to a few microamperes. This pin has two thresholds: one at 2.38V to disable switching and a second at 0.4V to force complete  micropower (See Datasheet)", 16 GND (power) "The GND pin connections act as the reference for the regulated output, so load regulation will suffer if the ground end of the load is not at the  same voltage as the GND pins of the IC. This condition will occur when load (See Datasheet)", 17 EP (power) "The GND pin connections act as the reference for the regulated output, so load regulation will suffer if the ground end of the load is not at the  same voltage as the GND pins of the IC. This condition will occur when load (See Datasheet)"